# EAGLE library part IM920XL (library IM920XL)
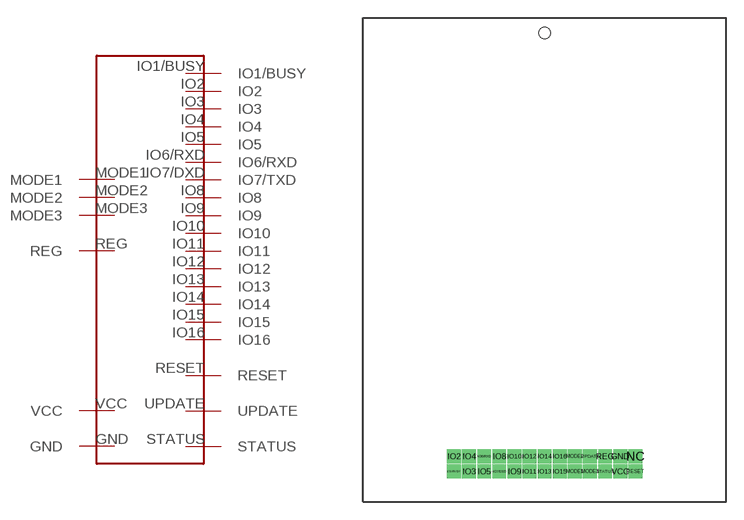
[diagram p0: symbol with the pads of IM920XL; footprint IM920XL]

Designator prefix -

## IM920XL  [IM920XL]
GND  GND
IO1/BUSY  IO1/BUSY
IO2  IO2
IO3  IO3
IO4  IO4
IO5  IO5
IO6/RXD  IO6/RXD
IO7/DXD  IO7/TXD
IO8  IO8
IO9  IO9
IO10  IO10
IO11  IO11
IO12  IO12
IO13  IO13
IO14  IO14
IO15  IO15
IO16  IO16
MODE1  MODE1
MODE2  MODE2
MODE3  MODE3
REG  REG
RESET  RESET
STATUS  STATUS
UPDATE  UPDATE
VCC  VCC

## Footprint IM920XL (pad centres in mm)
drill 0.65 square: GND 6.35,2.54; IO1/BUSY -7.62,1.27; IO2 -7.62,2.54; IO3 -6.35,1.27; IO4 -6.35,2.54; IO5 -5.08,1.27; IO6/RXD -5.08,2.54; IO7/DXD -3.81,1.27; IO8 -3.81,2.54; IO9 -2.54,1.27; IO10 -2.54,2.54; IO11 -1.27,1.27; IO12 -1.27,2.54; IO13 0,1.27; IO14 0,2.54; IO15 1.27,1.27; IO16 1.27,2.54; MODE1 2.54,1.27; MODE2 2.54,2.54; MODE3 3.81,1.27; NC 7.62,2.54; REG 5.08,2.54; RESET 7.62,1.27; STATUS 5.08,1.27; UPDATE 3.81,2.54; VCC 6.35,1.27
hole 1 at 0,38.1